# EAGLE library part BACKPLANE_ESC_ADAPTER_ESC (library Backplane_ESC_adapter)
Uses samtec IPS1-110-01-L-D-VS and IPS1-115-01-L-D (must be cut)
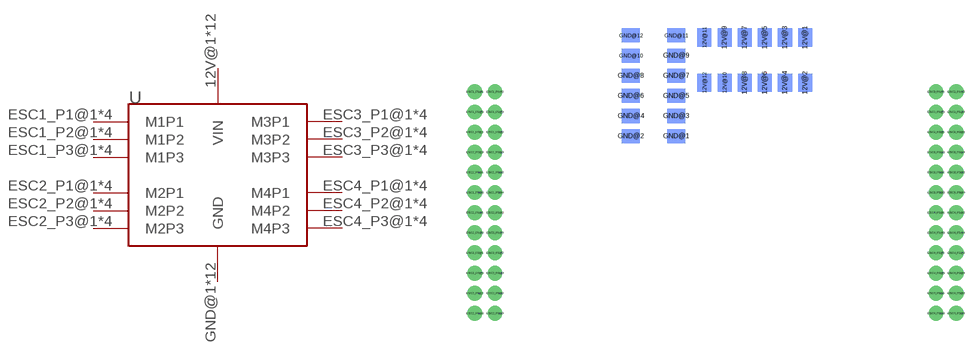
[diagram p1: symbol with the pads of BACKPLANE_ESC_ADAPTER_ESC; footprint BACKPLANE_ESC_ADAPTER_ESC]

Designator prefix -

## BACKPLANE_ESC_ADAPTER_ESC  [BACKPLANE_ESC_ADAPTER_ESC]
12V@1  VIN
12V@2  VIN
12V@3  VIN
12V@4  VIN
12V@5  VIN
12V@6  VIN
12V@7  VIN
12V@8  VIN
12V@9  VIN
12V@10  VIN
12V@11  VIN
12V@12  VIN
ESC1_P1@1  M1P1
ESC1_P1@2  M1P1
ESC1_P1@3  M1P1
ESC1_P1@4  M1P1
ESC1_P2@1  M1P2
ESC1_P2@2  M1P2
ESC1_P2@3  M1P2
ESC1_P2@4  M1P2
ESC1_P3@1  M1P3
ESC1_P3@2  M1P3
ESC1_P3@3  M1P3
ESC1_P3@4  M1P3
ESC2_P1@1  M2P1
ESC2_P1@2  M2P1
ESC2_P1@3  M2P1
ESC2_P1@4  M2P1
ESC2_P2@1  M2P2
ESC2_P2@2  M2P2
ESC2_P2@3  M2P2
ESC2_P2@4  M2P2
ESC2_P3@1  M2P3
ESC2_P3@2  M2P3
ESC2_P3@3  M2P3
ESC2_P3@4  M2P3
ESC3_P1@1  M3P1
ESC3_P1@2  M3P1
ESC3_P1@3  M3P1
ESC3_P1@4  M3P1
ESC3_P2@1  M3P2
ESC3_P2@2  M3P2
ESC3_P2@3  M3P2
ESC3_P2@4  M3P2
ESC3_P3@1  M3P3
ESC3_P3@2  M3P3
ESC3_P3@3  M3P3
ESC3_P3@4  M3P3
ESC4_P1@1  M4P1
ESC4_P1@2  M4P1
ESC4_P1@3  M4P1
ESC4_P1@4  M4P1
ESC4_P2@1  M4P2
ESC4_P2@2  M4P2
ESC4_P2@3  M4P2
ESC4_P2@4  M4P2
ESC4_P3@1  M4P3
ESC4_P3@2  M4P3
ESC4_P3@3  M4P3
ESC4_P3@4  M4P3
GND@1  GND
GND@2  GND
GND@3  GND
GND@4  GND
GND@5  GND
GND@6  GND
GND@7  GND
GND@8  GND
GND@9  GND
GND@10  GND
GND@11  GND
GND@12  GND

## Footprint BACKPLANE_ESC_ADAPTER_ESC (pad centres in mm)
smd 1.778 x 2.286 bottom: 12V@1 43.942,37.846; 12V@2 43.942,32.128; 12V@3 41.402,37.846; 12V@4 41.402,32.128; 12V@5 38.862,37.846; 12V@6 38.862,32.128; 12V@7 36.322,37.846; 12V@8 36.322,32.128; 12V@9 33.782,37.846; 12V@10 33.782,32.128; 12V@11 31.242,37.846; 12V@12 31.242,32.128
drill 1.016 pad 1.88: ESC1_P1@1 2.286,30.988; ESC1_P1@2 4.826,30.988; ESC1_P1@3 2.286,28.448; ESC1_P1@4 4.826,28.448; ESC1_P2@1 2.286,25.908; ESC1_P2@2 4.826,25.908; ESC1_P2@3 2.286,23.368; ESC1_P2@4 4.826,23.368; ESC1_P3@1 2.286,20.828; ESC1_P3@2 4.826,20.828; ESC1_P3@3 2.286,18.288; ESC1_P3@4 4.826,18.288; ESC2_P1@1 2.286,15.748; ESC2_P1@2 4.826,15.748; ESC2_P1@3 2.286,13.208; ESC2_P1@4 4.826,13.208; ESC2_P2@1 2.286,10.668; ESC2_P2@2 4.826,10.668; ESC2_P2@3 2.286,8.128; ESC2_P2@4 4.826,8.128; ESC2_P3@1 2.286,5.588; ESC2_P3@2 4.826,5.588; ESC2_P3@3 2.286,3.048; ESC2_P3@4 4.826,3.048; ESC3_P1@1 60.452,30.988; ESC3_P1@2 62.992,30.988; ESC3_P1@3 60.452,28.448; ESC3_P1@4 62.992,28.448; ESC3_P2@1 60.452,25.908; ESC3_P2@2 62.992,25.908; ESC3_P2@3 60.452,23.368; ESC3_P2@4 62.992,23.368; ESC3_P3@1 60.452,20.828; ESC3_P3@2 62.992,20.828; ESC3_P3@3 60.452,18.288; ESC3_P3@4 62.992,18.288; ESC4_P1@1 60.452,15.748; ESC4_P1@2 62.992,15.748; ESC4_P1@3 60.452,13.208; ESC4_P1@4 62.992,13.208; ESC4_P2@1 60.452,10.668; ESC4_P2@2 62.992,10.668; ESC4_P2@3 60.452,8.128; ESC4_P2@4 62.992,8.128; ESC4_P3@1 60.452,5.588; ESC4_P3@2 62.992,5.588; ESC4_P3@3 60.452,3.048; ESC4_P3@4 62.992,3.048
smd 2.286 x 1.778 bottom: GND@1 27.686,25.4; GND@2 21.968,25.4; GND@3 27.686,27.94; GND@4 21.968,27.94; GND@5 27.686,30.48; GND@6 21.968,30.48; GND@7 27.686,33.02; GND@8 21.968,33.02; GND@9 27.686,35.56; GND@10 21.968,35.56; GND@11 27.686,38.1; GND@12 21.968,38.1